# Altium schematic symbol library HeaderLIB.SchLib: 50 symbols
Pins are listed as number, name and electrical type; pins without a type are passive.

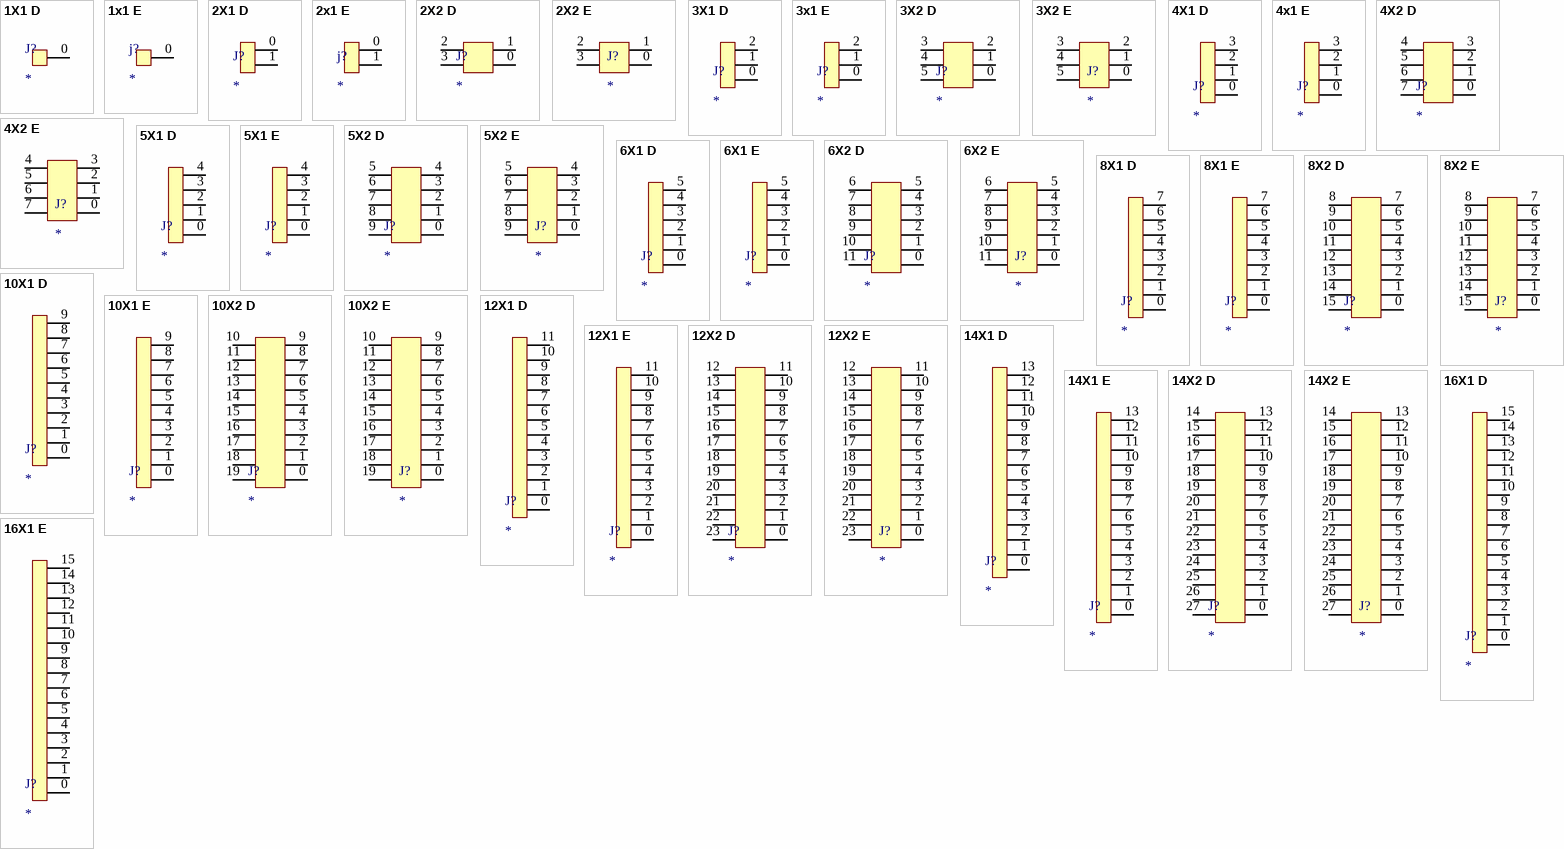
[diagram p0: symbols 1X1 D to 16X1 E]

## 1X1 D
designator J?
footprint 1X1 D
pins: 0

## 1x1 E
designator j?
footprint 1x1 E
pins: 0

## 2X1 D
designator J?
footprint 2X1 D
pins: 0, 1

## 2x1 E
designator j?
footprint 2X1 E
pins: 0, 1

## 2X2 D
designator J?
footprint 2X2 D
pins: 0, 1, 2, 3

## 2X2 E
designator J?
footprint 2X2 E
pins: 0, 1, 2, 3

## 3X1 D
designator J?
footprint 3X1 D
pins: 0, 1, 2

## 3x1 E
designator J?
footprint 3X1 E
pins: 0, 1, 2

## 3X2 D
designator J?
footprint 3X2 D
pins: 0, 1, 2, 3, 4, 5

## 3X2 E
designator J?
footprint 3X2 E
pins: 0, 1, 2, 3, 4, 5

## 4X1 D
designator J?
footprint 4X1 D
pins: 0, 1, 2, 3

## 4x1 E
designator J?
footprint 4X1 E
pins: 0, 1, 2, 3

## 4X2 D
designator J?
footprint 4X2 D
pins: 0, 1, 2, 3, 4, 5, 6, 7

## 4X2 E
designator J?
footprint 4X2 E
pins: 0, 1, 2, 3, 4, 5, 6, 7

## 5X1 D
designator J?
footprint 5X1 D
pins: 0, 1, 2, 3, 4

## 5X1 E
designator J?
footprint 5X1 E
pins: 0, 1, 2, 3, 4

## 5X2 D
designator J?
footprint 5X2 D
pins: 0, 1, 2, 3, 4, 5, 6, 7, 8, 9

## 5X2 E
designator J?
footprint 5X2 E
pins: 0, 1, 2, 3, 4, 5, 6, 7, 8, 9

## 6X1 D
designator J?
footprint 6X1 D
pins: 0, 1, 2, 3, 4, 5

## 6X1 E
designator J?
footprint 6X1 E
pins: 0, 1, 2, 3, 4, 5

## 6X2 D
designator J?
footprint 6X2 D
pins: 0, 1, 2, 3, 4, 5, 6, 7, 8, 9, 10, 11

## 6X2 E
designator J?
footprint 6X2 E
pins: 0, 1, 2, 3, 4, 5, 6, 7, 8, 9, 10, 11

## 8X1 D
designator J?
footprint 8X1 D
pins: 0, 1, 2, 3, 4, 5, 6, 7

## 8X1 E
designator J?
footprint 8X1 E
pins: 0, 1, 2, 3, 4, 5, 6, 7

## 8X2 D
designator J?
footprint 8X2 D
pins: 0, 1, 2, 3, 4, 5, 6, 7, 8, 9, 10, 11, 12, 13, 14, 15

## 8X2 E
designator J?
footprint 8X2 E
pins: 0, 1, 2, 3, 4, 5, 6, 7, 8, 9, 10, 11, 12, 13, 14, 15

## 10X1 D
designator J?
footprint 10X1 D
pins: 0, 1, 2, 3, 4, 5, 6, 7, 8, 9

## 10X1 E
designator J?
footprint 10X1 E
pins: 0, 1, 2, 3, 4, 5, 6, 7, 8, 9

## 10X2 D
designator J?
footprint 10X2 D
pins: 0, 1, 2, 3, 4, 5, 6, 7, 8, 9, 10, 11, 12, 13, 14, 15, 16, 17, 18, 19

## 10X2 E
designator J?
footprint 10X2 E
pins: 0, 1, 2, 3, 4, 5, 6, 7, 8, 9, 10, 11, 12, 13, 14, 15, 16, 17, 18, 19

## 12X1 D
designator J?
footprint 12X1 D
pins: 0, 1, 2, 3, 4, 5, 6, 7, 8, 9, 10, 11

## 12X1 E
designator J?
footprint 12X1 E
pins: 0, 1, 2, 3, 4, 5, 6, 7, 8, 9, 10, 11

## 12X2 D
designator J?
footprint 12X2 D
pins: 0, 1, 2, 3, 4, 5, 6, 7, 8, 9, 10, 11, 12, 13, 14, 15, 16, 17, 18, 19, 20, 21, 22, 23

## 12X2 E
designator J?
footprint 12X2 E
pins: 0, 1, 2, 3, 4, 5, 6, 7, 8, 9, 10, 11, 12, 13, 14, 15, 16, 17, 18, 19, 20, 21, 22, 23

## 14X1 D
designator J?
footprint 14X1 D
pins: 0, 1, 2, 3, 4, 5, 6, 7, 8, 9, 10, 11, 12, 13

## 14X1 E
designator J?
footprint 14X1 E
pins: 0, 1, 2, 3, 4, 5, 6, 7, 8, 9, 10, 11, 12, 13

## 14X2 D
designator J?
footprint 14X2 D
pins: 0, 1, 2, 3, 4, 5, 6, 7, 8, 9, 10, 11, 12, 13, 14, 15, 16, 17, 18, 19, 20, 21, 22, 23, 24, 25, 26, 27

## 14X2 E
designator J?
footprint 14X2 E
pins: 0, 1, 2, 3, 4, 5, 6, 7, 8, 9, 10, 11, 12, 13, 14, 15, 16, 17, 18, 19, 20, 21, 22, 23, 24, 25, 26, 27

## 16X1 D
designator J?
footprint 16X1 D
pins: 0, 1, 2, 3, 4, 5, 6, 7, 8, 9, 10, 11, 12, 13, 14, 15

## 16X1 E
designator J?
footprint 16X1 E
pins: 0, 1, 2, 3, 4, 5, 6, 7, 8, 9, 10, 11, 12, 13, 14, 15

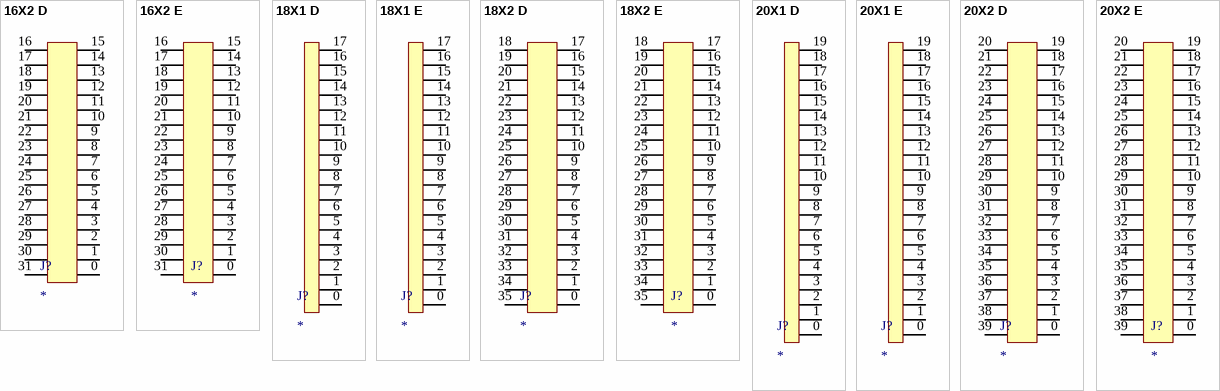
[diagram p1: symbols 16X2 D to 20X2 E]

## 16X2 D
designator J?
footprint 16X2 D
pins: 0, 1, 2, 3, 4, 5, 6, 7, 8, 9, 10, 11, 12, 13, 14, 15, 16, 17, 18, 19, 20, 21, 22, 23, 24, 25, 26, 27, 28, 29, 30, 31

## 16X2 E
designator J?
footprint 16X2 E
pins: 0, 1, 2, 3, 4, 5, 6, 7, 8, 9, 10, 11, 12, 13, 14, 15, 16, 17, 18, 19, 20, 21, 22, 23, 24, 25, 26, 27, 28, 29, 30, 31

## 18X1 D
designator J?
footprint 18X1 D
pins: 0, 1, 2, 3, 4, 5, 6, 7, 8, 9, 10, 11, 12, 13, 14, 15, 16, 17

## 18X1 E
designator J?
footprint 18X1 E
pins: 0, 1, 2, 3, 4, 5, 6, 7, 8, 9, 10, 11, 12, 13, 14, 15, 16, 17

## 18X2 D
designator J?
footprint 18X2 D
pins: 0, 1, 2, 3, 4, 5, 6, 7, 8, 9, 10, 11, 12, 13, 14, 15, 16, 17, 18, 19, 20, 21, 22, 23, 24, 25, 26, 27, 28, 29, 30, 31, 32, 33, 34, 35

## 18X2 E
designator J?
footprint 18X2 E
pins: 0, 1, 2, 3, 4, 5, 6, 7, 8, 9, 10, 11, 12, 13, 14, 15, 16, 17, 18, 19, 20, 21, 22, 23, 24, 25, 26, 27, 28, 29, 30, 31, 32, 33, 34, 35

## 20X1 D
designator J?
footprint 20X1 D
pins: 0, 1, 2, 3, 4, 5, 6, 7, 8, 9, 10, 11, 12, 13, 14, 15, 16, 17, 18, 19

## 20X1 E
designator J?
footprint 20X1 E
pins: 0, 1, 2, 3, 4, 5, 6, 7, 8, 9, 10, 11, 12, 13, 14, 15, 16, 17, 18, 19

## 20X2 D
designator J?
footprint 20X2 D
pins: 0, 1, 2, 3, 4, 5, 6, 7, 8, 9, 10, 11, 12, 13, 14, 15, 16, 17, 18, 19, 20, 21, 22, 23, 24, 25, 26, 27, 28, 29, 30, 31, 32, 33, 34, 35, 36, 37, 38, 39

## 20X2 E
designator J?
footprint 20X2 E
pins: 0, 1, 2, 3, 4, 5, 6, 7, 8, 9, 10, 11, 12, 13, 14, 15, 16, 17, 18, 19, 20, 21, 22, 23, 24, 25, 26, 27, 28, 29, 30, 31, 32, 33, 34, 35, 36, 37, 38, 39